# EAGLE library part W7500P (library misc)
W7500P chip is the one-chip solution which integrates an ARM Cortex-M0, 128KB Flash, hardwired TCP/IP core for various embedded application platform, 10/100 Ethernet MAC and PHY,
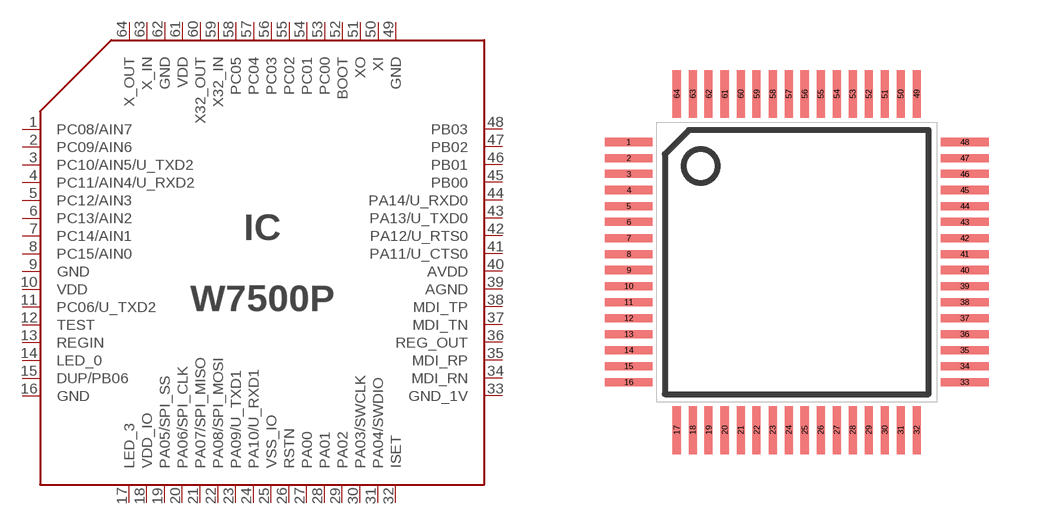
[diagram p81: symbol with the pads of TQFP64-7X7; footprint TQFP64-7X7]

Designator prefix IC

## W7500P (MANF: Wiznet; MANF#: W7500P)  [TQFP64-7X7]
1  PC08/AIN7
2  PC09/AIN6
3  PC10/AIN5/U_TXD2
4  PC11/AIN4/U_RXD2
5  PC12/AIN3
6  PC13/AIN2
7  PC14/AIN1
8  PC15/AIN0
9  GND
10  VDD
11  PC06/U_TXD2
12  TEST
13  REGIN
14  LED_0
15  DUP/PB06
16  GND
17  LED_3
18  VDD_IO
19  PA05/SPI_SS
20  PA06/SPI_CLK
21  PA07/SPI_MISO
22  PA08/SPI_MOSI
23  PA09/U_TXD1
24  PA10/U_RXD1
25  VSS_IO
26  RSTN
27  PA00
28  PA01
29  PA02
30  PA03/SWCLK
31  PA04/SWDIO
32  ISET
33  GND_1V
34  MDI_RN
35  MDI_RP
36  REG_OUT
37  MDI_TN
38  MDI_TP
39  AGND
40  AVDD
41  PA11/U_CTS0
42  PA12/U_RTS0
43  PA13/U_TXD0
44  PA14/U_RXD0
45  PB00
46  PB01
47  PB02
48  PB03
49  GND
50  XI
51  XO
52  BOOT
53  PC00
54  PC01
55  PC02
56  PC03
57  PC04
58  PC05
59  X32_IN
60  X32_OUT
61  VDD
62  GND
63  X_IN
64  X_OUT

## Footprint TQFP64-7X7 (pad centres in mm)
smd 1.2 x 0.2: 1 -4.2,3; 2 -4.2,2.6; 3 -4.2,2.2; 4 -4.2,1.8; 5 -4.2,1.4; 6 -4.2,1; 7 -4.2,0.6; 8 -4.2,0.2; 9 -4.2,-0.2; 10 -4.2,-0.6; 11 -4.2,-1; 12 -4.2,-1.4; 13 -4.2,-1.8; 14 -4.2,-2.2; 15 -4.2,-2.6; 16 -4.2,-3; 33 4.2,-3; 34 4.2,-2.6; 35 4.2,-2.2; 36 4.2,-1.8; 37 4.2,-1.4; 38 4.2,-1; 39 4.2,-0.6; 40 4.2,-0.2; 41 4.2,0.2; 42 4.2,0.6; 43 4.2,1; 44 4.2,1.4; 45 4.2,1.8; 46 4.2,2.2; 47 4.2,2.6; 48 4.2,3
smd 0.2 x 1.2: 17 -3,-4.2; 18 -2.6,-4.2; 19 -2.2,-4.2; 20 -1.8,-4.2; 21 -1.4,-4.2; 22 -1,-4.2; 23 -0.6,-4.2; 24 -0.2,-4.2; 25 0.2,-4.2; 26 0.6,-4.2; 27 1,-4.2; 28 1.4,-4.2; 29 1.8,-4.2; 30 2.2,-4.2; 31 2.6,-4.2; 32 3,-4.2; 49 3,4.2; 50 2.6,4.2; 51 2.2,4.2; 52 1.8,4.2; 53 1.4,4.2; 54 1,4.2; 55 0.6,4.2; 56 0.2,4.2; 57 -0.2,4.2; 58 -0.6,4.2; 59 -1,4.2; 60 -1.4,4.2; 61 -1.8,4.2; 62 -2.2,4.2; 63 -2.6,4.2; 64 -3,4.2